# EAGLE library part OSD3358 (library BeagleBone_Blue)
Octavo Systems LLC - OSD3358 Rev A
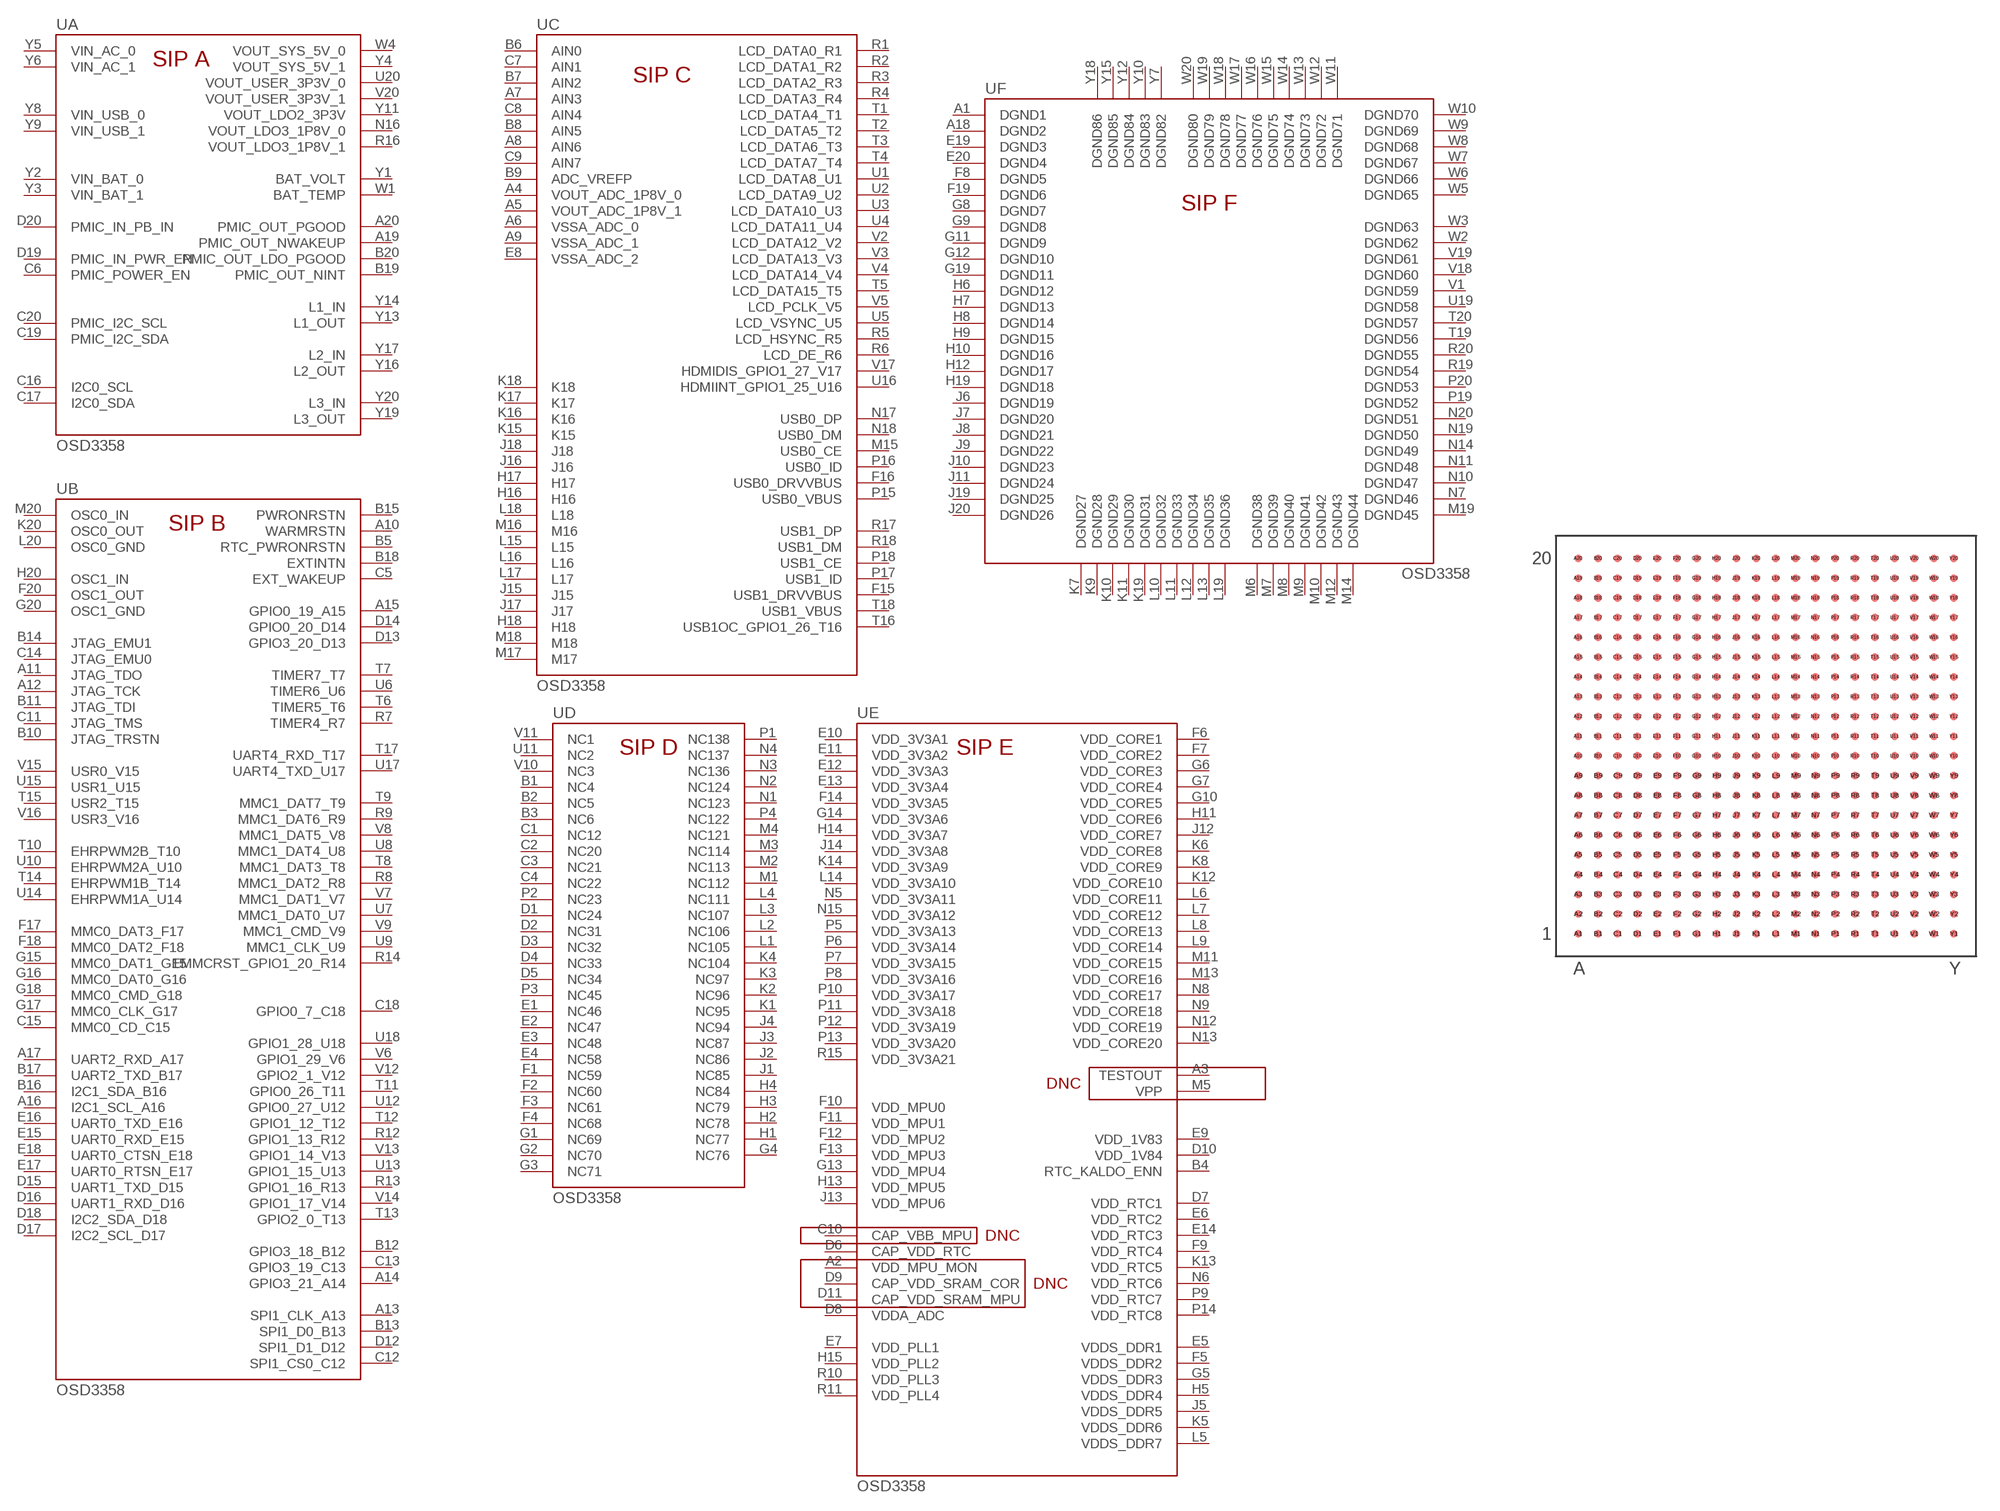
[diagram p1: symbol with the pads of BEAGLEBONE_BLUE_OSD3358; footprint BEAGLEBONE_BLUE_OSD3358]

Designator prefix -; gates A=BEAGLEBONE_BLUE_A B=BEAGLEBONE_BLUE_B C=BEAGLEBONE_BLUE_C D=BEAGLEBONE_BLUE_D E=BEAGLEBONE_BLUE_E F=BEAGLEBONE_BLUE_F

## OSD3358  [BEAGLEBONE_BLUE_OSD3358]
A1  F:DGND1
A2  E:VDD_MPU_MON
A3  E:TESTOUT
A4  C:VOUT_ADC_1P8V_0
A5  C:VOUT_ADC_1P8V_1
A6  C:VSSA_ADC_0
A7  C:AIN3
A8  C:AIN6
A9  C:VSSA_ADC_1
A10  B:WARMRSTN
A11  B:JTAG_TDO
A12  B:JTAG_TCK
A13  B:SPI1_CLK_A13
A14  B:GPIO3_21_A14
A15  B:GPIO0_19_A15
A16  B:I2C1_SCL_A16
A17  B:UART2_RXD_A17
A18  F:DGND2
A19  A:PMIC_OUT_NWAKEUP  out
A20  A:PMIC_OUT_PGOOD  out
B1  D:NC4
B2  D:NC5
B3  D:NC6
B4  E:RTC_KALDO_ENN
B5  B:RTC_PWRONRSTN
B6  C:AIN0
B7  C:AIN2
B8  C:AIN5
B9  C:ADC_VREFP
B10  B:JTAG_TRSTN
B11  B:JTAG_TDI
B12  B:GPIO3_18_B12
B13  B:SPI1_D0_B13
B14  B:JTAG_EMU1
B15  B:PWRONRSTN
B16  B:I2C1_SDA_B16
B17  B:UART2_TXD_B17
B18  B:EXTINTN
B19  A:PMIC_OUT_NINT  out
B20  A:PMIC_OUT_LDO_PGOOD  out
C1  D:NC12
C2  D:NC20
C3  D:NC21
C4  D:NC22
C5  B:EXT_WAKEUP
C6  A:PMIC_POWER_EN  out
C7  C:AIN1
C8  C:AIN4
C9  C:AIN7
C10  E:CAP_VBB_MPU
C11  B:JTAG_TMS
C12  B:SPI1_CS0_C12
C13  B:GPIO3_19_C13
C14  B:JTAG_EMU0
C15  B:MMC0_CD_C15
C16  A:I2C0_SCL
C17  A:I2C0_SDA
C18  B:GPIO0_7_C18
C19  A:PMIC_I2C_SDA
C20  A:PMIC_I2C_SCL
D1  D:NC24
D2  D:NC31
D3  D:NC32
D4  D:NC33
D5  D:NC34
D6  E:CAP_VDD_RTC
D7  E:VDD_RTC1
D8  E:VDDA_ADC
D9  E:CAP_VDD_SRAM_COR
D10  E:VDD_1V84
D11  E:CAP_VDD_SRAM_MPU
D12  B:SPI1_D1_D12
D13  B:GPIO3_20_D13
D14  B:GPIO0_20_D14
D15  B:UART1_TXD_D15
D16  B:UART1_RXD_D16
D17  B:I2C2_SCL_D17
D18  B:I2C2_SDA_D18
D19  A:PMIC_IN_PWR_EN  in
D20  A:PMIC_IN_PB_IN
E1  D:NC46
E2  D:NC47
E3  D:NC48
E4  D:NC58
E5  E:VDDS_DDR1
E6  E:VDD_RTC2
E7  E:VDD_PLL1
E8  C:VSSA_ADC_2
E9  E:VDD_1V83
E10  E:VDD_3V3A1
E11  E:VDD_3V3A2
E12  E:VDD_3V3A3
E13  E:VDD_3V3A4
E14  E:VDD_RTC3
E15  B:UART0_RXD_E15
E16  B:UART0_TXD_E16
E17  B:UART0_RTSN_E17
E18  B:UART0_CTSN_E18
E19  F:DGND3
E20  F:DGND4
F1  D:NC59
F2  D:NC60
F3  D:NC61
F4  D:NC68
F5  E:VDDS_DDR2
F6  E:VDD_CORE1
F7  E:VDD_CORE2
F8  F:DGND5
F9  E:VDD_RTC4
F10  E:VDD_MPU0
F11  E:VDD_MPU1
F12  E:VDD_MPU2
F13  E:VDD_MPU3
F14  E:VDD_3V3A5
F15  C:USB1_DRVVBUS
F16  C:USB0_DRVVBUS
F17  B:MMC0_DAT3_F17
F18  B:MMC0_DAT2_F18
F19  F:DGND6
F20  B:OSC1_OUT
G1  D:NC69
G2  D:NC70
G3  D:NC71
G4  D:NC76
G5  E:VDDS_DDR3
G6  E:VDD_CORE3
G7  E:VDD_CORE4
G8  F:DGND7
G9  F:DGND8
G10  E:VDD_CORE5
G11  F:DGND9
G12  F:DGND10
G13  E:VDD_MPU4
G14  E:VDD_3V3A6
G15  B:MMC0_DAT1_G15
G16  B:MMC0_DAT0_G16
G17  B:MMC0_CLK_G17
G18  B:MMC0_CMD_G18
G19  F:DGND11
G20  B:OSC1_GND
H1  D:NC77
H2  D:NC78
H3  D:NC79
H4  D:NC84
H5  E:VDDS_DDR4
H6  F:DGND12
H7  F:DGND13
H8  F:DGND14
H9  F:DGND15
H10  F:DGND16
H11  E:VDD_CORE6
H12  F:DGND17
H13  E:VDD_MPU5
H14  E:VDD_3V3A7
H15  E:VDD_PLL2
H16  C:H16
H17  C:H17
H18  C:H18
H19  F:DGND18
H20  B:OSC1_IN
J1  D:NC85
J2  D:NC86
J3  D:NC87
J4  D:NC94
J5  E:VDDS_DDR5
J6  F:DGND19
J7  F:DGND20
J8  F:DGND21
J9  F:DGND22
J10  F:DGND23
J11  F:DGND24
J12  E:VDD_CORE7
J13  E:VDD_MPU6
J14  E:VDD_3V3A8
J15  C:J15
J16  C:J16
J17  C:J17
J18  C:J18
J19  F:DGND25
J20  F:DGND26
K1  D:NC95
K2  D:NC96
K3  D:NC97
K4  D:NC104
K5  E:VDDS_DDR6
K6  E:VDD_CORE8
K7  F:DGND27
K8  E:VDD_CORE9
K9  F:DGND28
K10  F:DGND29
K11  F:DGND30
K12  E:VDD_CORE10
K13  E:VDD_RTC5
K14  E:VDD_3V3A9
K15  C:K15
K16  C:K16
K17  C:K17
K18  C:K18
K19  F:DGND31
K20  B:OSC0_OUT
L1  D:NC105
L2  D:NC106
L3  D:NC107
L4  D:NC111
L5  E:VDDS_DDR7
L6  E:VDD_CORE11
L7  E:VDD_CORE12
L8  E:VDD_CORE13
L9  E:VDD_CORE14
L10  F:DGND32
L11  F:DGND33
L12  F:DGND34
L13  F:DGND35
L14  E:VDD_3V3A10
L15  C:L15
L16  C:L16
L17  C:L17
L18  C:L18
L19  F:DGND36
L20  B:OSC0_GND
M1  D:NC112
M2  D:NC113
M3  D:NC114
M4  D:NC121
M5  E:VPP
M6  F:DGND38
M7  F:DGND39
M8  F:DGND40
M9  F:DGND41
M10  F:DGND42
M11  E:VDD_CORE15
M12  F:DGND43
M13  E:VDD_CORE16
M14  F:DGND44
M15  C:USB0_CE
M16  C:M16
M17  C:M17
M18  C:M18
M19  F:DGND45
M20  B:OSC0_IN
N1  D:NC123
N2  D:NC124
N3  D:NC136
N4  D:NC137
N5  E:VDD_3V3A11
N6  E:VDD_RTC6
N7  F:DGND46
N8  E:VDD_CORE17
N9  E:VDD_CORE18
N10  F:DGND47
N11  F:DGND48
N12  E:VDD_CORE19
N13  E:VDD_CORE20
N14  F:DGND49
N15  E:VDD_3V3A12
N16  A:VOUT_LDO3_1P8V_0  pwr
N17  C:USB0_DP
N18  C:USB0_DM
N19  F:DGND50
N20  F:DGND51
P1  D:NC138
P2  D:NC23
P3  D:NC45
P4  D:NC122
P5  E:VDD_3V3A13
P6  E:VDD_3V3A14
P7  E:VDD_3V3A15
P8  E:VDD_3V3A16
P9  E:VDD_RTC7
P10  E:VDD_3V3A17
P11  E:VDD_3V3A18
P12  E:VDD_3V3A19
P13  E:VDD_3V3A20
P14  E:VDD_RTC8
P15  C:USB0_VBUS
P16  C:USB0_ID
P17  C:USB1_ID
P18  C:USB1_CE
P19  F:DGND52
P20  F:DGND53
R1  C:LCD_DATA0_R1
R2  C:LCD_DATA1_R2
R3  C:LCD_DATA2_R3
R4  C:LCD_DATA3_R4
R5  C:LCD_HSYNC_R5
R6  C:LCD_DE_R6
R7  B:TIMER4_R7
R8  B:MMC1_DAT2_R8
R9  B:MMC1_DAT6_R9
R10  E:VDD_PLL3
R11  E:VDD_PLL4
R12  B:GPIO1_13_R12
R13  B:GPIO1_16_R13
R14  B:EMMCRST_GPIO1_20_R14
R15  E:VDD_3V3A21
R16  A:VOUT_LDO3_1P8V_1  pwr
R17  C:USB1_DP
R18  C:USB1_DM
R19  F:DGND54
R20  F:DGND55
T1  C:LCD_DATA4_T1
T2  C:LCD_DATA5_T2
T3  C:LCD_DATA6_T3
T4  C:LCD_DATA7_T4
T5  C:LCD_DATA15_T5
T6  B:TIMER5_T6
T7  B:TIMER7_T7
T8  B:MMC1_DAT3_T8
T9  B:MMC1_DAT7_T9
T10  B:EHRPWM2B_T10
T11  B:GPIO0_26_T11
T12  B:GPIO1_12_T12
T13  B:GPIO2_0_T13
T14  B:EHRPWM1B_T14
T15  B:USR2_T15
T16  C:USB1OC_GPIO1_26_T16
T17  B:UART4_RXD_T17
T18  C:USB1_VBUS
T19  F:DGND56
T20  F:DGND57
U1  C:LCD_DATA8_U1
U2  C:LCD_DATA9_U2
U3  C:LCD_DATA10_U3
U4  C:LCD_DATA11_U4
U5  C:LCD_VSYNC_U5
U6  B:TIMER6_U6
U7  B:MMC1_DAT0_U7
U8  B:MMC1_DAT4_U8
U9  B:MMC1_CLK_U9
U10  B:EHRPWM2A_U10
U11  D:NC2
U12  B:GPIO0_27_U12
U13  B:GPIO1_15_U13
U14  B:EHRPWM1A_U14
U15  B:USR1_U15
U16  C:HDMIINT_GPIO1_25_U16
U17  B:UART4_TXD_U17
U18  B:GPIO1_28_U18
U19  F:DGND58
U20  A:VOUT_USER_3P3V_0  pwr
V1  F:DGND59
V2  C:LCD_DATA12_V2
V3  C:LCD_DATA13_V3
V4  C:LCD_DATA14_V4
V5  C:LCD_PCLK_V5
V6  B:GPIO1_29_V6
V7  B:MMC1_DAT1_V7
V8  B:MMC1_DAT5_V8
V9  B:MMC1_CMD_V9
V10  D:NC3
V11  D:NC1
V12  B:GPIO2_1_V12
V13  B:GPIO1_14_V13
V14  B:GPIO1_17_V14
V15  B:USR0_V15
V16  B:USR3_V16
V17  C:HDMIDIS_GPIO1_27_V17
V18  F:DGND60
V19  F:DGND61
V20  A:VOUT_USER_3P3V_1  pwr
W1  A:BAT_TEMP
W2  F:DGND62
W3  F:DGND63
W4  A:VOUT_SYS_5V_0  pwr
W5  F:DGND65
W6  F:DGND66
W7  F:DGND67
W8  F:DGND68
W9  F:DGND69
W10  F:DGND70
W11  F:DGND71
W12  F:DGND72
W13  F:DGND73
W14  F:DGND74
W15  F:DGND75
W16  F:DGND76
W17  F:DGND77
W18  F:DGND78
W19  F:DGND79
W20  F:DGND80
Y1  A:BAT_VOLT
Y2  A:VIN_BAT_0  pwr
Y3  A:VIN_BAT_1  pwr
Y4  A:VOUT_SYS_5V_1  pwr
Y5  A:VIN_AC_0  pwr
Y6  A:VIN_AC_1  pwr
Y7  F:DGND82
Y8  A:VIN_USB_0  pwr
Y9  A:VIN_USB_1  pwr
Y10  F:DGND83
Y11  A:VOUT_LDO2_3P3V  pwr
Y12  F:DGND84
Y13  A:L1_OUT
Y14  A:L1_IN
Y15  F:DGND85
Y16  A:L2_OUT
Y17  A:L2_IN
Y18  F:DGND86
Y19  A:L3_OUT
Y20  A:L3_IN

## Footprint BEAGLEBONE_BLUE_OSD3358 (pad centres in mm)
smd 0.5 x 0.5: A1 -12.065,-12.065; A2 -12.065,-10.795; A3 -12.065,-9.525; A4 -12.065,-8.255; A5 -12.065,-6.985; A6 -12.065,-5.715; A7 -12.065,-4.445; A8 -12.065,-3.175; A9 -12.065,-1.905; A10 -12.065,-0.635; A11 -12.065,0.635; A12 -12.065,1.905; A13 -12.065,3.175; A14 -12.065,4.445; A15 -12.065,5.715; A16 -12.065,6.985; A17 -12.065,8.255; A18 -12.065,9.525; A19 -12.065,10.795; A20 -12.065,12.065; B1 -10.795,-12.065; B2 -10.795,-10.795; B3 -10.795,-9.525; B4 -10.795,-8.255; B5 -10.795,-6.985; B6 -10.795,-5.715; B7 -10.795,-4.445; B8 -10.795,-3.175; B9 -10.795,-1.905; B10 -10.795,-0.635; B11 -10.795,0.635; B12 -10.795,1.905; B13 -10.795,3.175; B14 -10.795,4.445; B15 -10.795,5.715; B16 -10.795,6.985; B17 -10.795,8.255; B18 -10.795,9.525; B19 -10.795,10.795; B20 -10.795,12.065; C1 -9.525,-12.065; C2 -9.525,-10.795; C3 -9.525,-9.525; C4 -9.525,-8.255; C5 -9.525,-6.985; C6 -9.525,-5.715; C7 -9.525,-4.445; C8 -9.525,-3.175; C9 -9.525,-1.905; C10 -9.525,-0.635; C11 -9.525,0.635; C12 -9.525,1.905; C13 -9.525,3.175; C14 -9.525,4.445; C15 -9.525,5.715; C16 -9.525,6.985; C17 -9.525,8.255; C18 -9.525,9.525; C19 -9.525,10.795; C20 -9.525,12.065; D1 -8.255,-12.065; D2 -8.255,-10.795; D3 -8.255,-9.525; D4 -8.255,-8.255; D5 -8.255,-6.985; D6 -8.255,-5.715; D7 -8.255,-4.445; D8 -8.255,-3.175; D9 -8.255,-1.905; D10 -8.255,-0.635; D11 -8.255,0.635; D12 -8.255,1.905; D13 -8.255,3.175; D14 -8.255,4.445; D15 -8.255,5.715; D16 -8.255,6.985; D17 -8.255,8.255; D18 -8.255,9.525; D19 -8.255,10.795; D20 -8.255,12.065; E1 -6.985,-12.065; E2 -6.985,-10.795; E3 -6.985,-9.525; E4 -6.985,-8.255; E5 -6.985,-6.985; E6 -6.985,-5.715; E7 -6.985,-4.445; E8 -6.985,-3.175; E9 -6.985,-1.905; E10 -6.985,-0.635; E11 -6.985,0.635; E12 -6.985,1.905; E13 -6.985,3.175; E14 -6.985,4.445; E15 -6.985,5.715; E16 -6.985,6.985; E17 -6.985,8.255; E18 -6.985,9.525; E19 -6.985,10.795; E20 -6.985,12.065; F1 -5.715,-12.065; F2 -5.715,-10.795; F3 -5.715,-9.525; F4 -5.715,-8.255; F5 -5.715,-6.985; F6 -5.715,-5.715; F7 -5.715,-4.445; F8 -5.715,-3.175; F9 -5.715,-1.905; F10 -5.715,-0.635; F11 -5.715,0.635; F12 -5.715,1.905; F13 -5.715,3.175; F14 -5.715,4.445; F15 -5.715,5.715; F16 -5.715,6.985; F17 -5.715,8.255; F18 -5.715,9.525; F19 -5.715,10.795; F20 -5.715,12.065; G1 -4.445,-12.065; G2 -4.445,-10.795; G3 -4.445,-9.525; G4 -4.445,-8.255; G5 -4.445,-6.985; G6 -4.445,-5.715; G7 -4.445,-4.445; G8 -4.445,-3.175; G9 -4.445,-1.905; G10 -4.445,-0.635; G11 -4.445,0.635; G12 -4.445,1.905; G13 -4.445,3.175; G14 -4.445,4.445; G15 -4.445,5.715; G16 -4.445,6.985; G17 -4.445,8.255; G18 -4.445,9.525; G19 -4.445,10.795; G20 -4.445,12.065; H1 -3.175,-12.065; H2 -3.175,-10.795; H3 -3.175,-9.525; H4 -3.175,-8.255; H5 -3.175,-6.985; H6 -3.175,-5.715; H7 -3.175,-4.445; H8 -3.175,-3.175; H9 -3.175,-1.905; H10 -3.175,-0.635; H11 -3.175,0.635; H12 -3.175,1.905; H13 -3.175,3.175; H14 -3.175,4.445; H15 -3.175,5.715; H16 -3.175,6.985; H17 -3.175,8.255; H18 -3.175,9.525; H19 -3.175,10.795; H20 -3.175,12.065; J1 -1.905,-12.065; J2 -1.905,-10.795; J3 -1.905,-9.525; J4 -1.905,-8.255; J5 -1.905,-6.985; J6 -1.905,-5.715; J7 -1.905,-4.445; J8 -1.905,-3.175; J9 -1.905,-1.905; J10 -1.905,-0.635; J11 -1.905,0.635; J12 -1.905,1.905; J13 -1.905,3.175; J14 -1.905,4.445; J15 -1.905,5.715; J16 -1.905,6.985; J17 -1.905,8.255; J18 -1.905,9.525; J19 -1.905,10.795; J20 -1.905,12.065; K1 -0.635,-12.065; K2 -0.635,-10.795; K3 -0.635,-9.525; K4 -0.635,-8.255; K5 -0.635,-6.985; K6 -0.635,-5.715; K7 -0.635,-4.445; K8 -0.635,-3.175; K9 -0.635,-1.905; K10 -0.635,-0.635; K11 -0.635,0.635; K12 -0.635,1.905; K13 -0.635,3.175; K14 -0.635,4.445; K15 -0.635,5.715; K16 -0.635,6.985; K17 -0.635,8.255; K18 -0.635,9.525; K19 -0.635,10.795; K20 -0.635,12.065; L1 0.635,-12.065; L2 0.635,-10.795; L3 0.635,-9.525; L4 0.635,-8.255; L5 0.635,-6.985; L6 0.635,-5.715; L7 0.635,-4.445; L8 0.635,-3.175; L9 0.635,-1.905; L10 0.635,-0.635; L11 0.635,0.635; L12 0.635,1.905; L13 0.635,3.175; L14 0.635,4.445; L15 0.635,5.715; L16 0.635,6.985; L17 0.635,8.255; L18 0.635,9.525; L19 0.635,10.795; L20 0.635,12.065; M1 1.905,-12.065; M2 1.905,-10.795; M3 1.905,-9.525; M4 1.905,-8.255; M5 1.905,-6.985; M6 1.905,-5.715; M7 1.905,-4.445; M8 1.905,-3.175; M9 1.905,-1.905; M10 1.905,-0.635; M11 1.905,0.635; M12 1.905,1.905; M13 1.905,3.175; M14 1.905,4.445; M15 1.905,5.715; M16 1.905,6.985; M17 1.905,8.255; M18 1.905,9.525; M19 1.905,10.795; M20 1.905,12.065; N1 3.175,-12.065; N2 3.175,-10.795; N3 3.175,-9.525; N4 3.175,-8.255; N5 3.175,-6.985; N6 3.175,-5.715; N7 3.175,-4.445; N8 3.175,-3.175; N9 3.175,-1.905; N10 3.175,-0.635; N11 3.175,0.635; N12 3.175,1.905; N13 3.175,3.175; N14 3.175,4.445; N15 3.175,5.715; N16 3.175,6.985; N17 3.175,8.255; N18 3.175,9.525; N19 3.175,10.795; N20 3.175,12.065; P1 4.445,-12.065; P2 4.445,-10.795; P3 4.445,-9.525; P4 4.445,-8.255; P5 4.445,-6.985; P6 4.445,-5.715; P7 4.445,-4.445; P8 4.445,-3.175; P9 4.445,-1.905; P10 4.445,-0.635; P11 4.445,0.635; P12 4.445,1.905; P13 4.445,3.175; P14 4.445,4.445; P15 4.445,5.715; P16 4.445,6.985; P17 4.445,8.255; P18 4.445,9.525; P19 4.445,10.795; P20 4.445,12.065; R1 5.715,-12.065; R2 5.715,-10.795; R3 5.715,-9.525; R4 5.715,-8.255; R5 5.715,-6.985; R6 5.715,-5.715; R7 5.715,-4.445; R8 5.715,-3.175; R9 5.715,-1.905; R10 5.715,-0.635; R11 5.715,0.635; R12 5.715,1.905; R13 5.715,3.175; R14 5.715,4.445; R15 5.715,5.715; R16 5.715,6.985; R17 5.715,8.255; R18 5.715,9.525; R19 5.715,10.795; R20 5.715,12.065; T1 6.985,-12.065; T2 6.985,-10.795; T3 6.985,-9.525; T4 6.985,-8.255; T5 6.985,-6.985; T6 6.985,-5.715; T7 6.985,-4.445; T8 6.985,-3.175; T9 6.985,-1.905; T10 6.985,-0.635; T11 6.985,0.635; T12 6.985,1.905; T13 6.985,3.175; T14 6.985,4.445; T15 6.985,5.715; T16 6.985,6.985; T17 6.985,8.255; T18 6.985,9.525; T19 6.985,10.795; T20 6.985,12.065; U1 8.255,-12.065; U2 8.255,-10.795; U3 8.255,-9.525; U4 8.255,-8.255; U5 8.255,-6.985; U6 8.255,-5.715; U7 8.255,-4.445; U8 8.255,-3.175; U9 8.255,-1.905; U10 8.255,-0.635; U11 8.255,0.635; U12 8.255,1.905; U13 8.255,3.175; U14 8.255,4.445; U15 8.255,5.715; U16 8.255,6.985; U17 8.255,8.255; U18 8.255,9.525; U19 8.255,10.795; U20 8.255,12.065; V1 9.525,-12.065; V2 9.525,-10.795; V3 9.525,-9.525; V4 9.525,-8.255; V5 9.525,-6.985; V6 9.525,-5.715; V7 9.525,-4.445; V8 9.525,-3.175; V9 9.525,-1.905; V10 9.525,-0.635; V11 9.525,0.635; V12 9.525,1.905; V13 9.525,3.175; V14 9.525,4.445; V15 9.525,5.715; V16 9.525,6.985; V17 9.525,8.255; V18 9.525,9.525; V19 9.525,10.795; V20 9.525,12.065; W1 10.795,-12.065; W2 10.795,-10.795; W3 10.795,-9.525; W4 10.795,-8.255; W5 10.795,-6.985; W6 10.795,-5.715; W7 10.795,-4.445; W8 10.795,-3.175; W9 10.795,-1.905; W10 10.795,-0.635; W11 10.795,0.635; W12 10.795,1.905; W13 10.795,3.175; W14 10.795,4.445; W15 10.795,5.715; W16 10.795,6.985; W17 10.795,8.255; W18 10.795,9.525; W19 10.795,10.795; W20 10.795,12.065; Y1 12.065,-12.065; Y2 12.065,-10.795; Y3 12.065,-9.525; Y4 12.065,-8.255; Y5 12.065,-6.985; Y6 12.065,-5.715; Y7 12.065,-4.445; Y8 12.065,-3.175; Y9 12.065,-1.905; Y10 12.065,-0.635; Y11 12.065,0.635; Y12 12.065,1.905; Y13 12.065,3.175; Y14 12.065,4.445; Y15 12.065,5.715; Y16 12.065,6.985; Y17 12.065,8.255; Y18 12.065,9.525; Y19 12.065,10.795; Y20 12.065,12.065